# Altium integrated library EverythingUSB.IntLib: 1 symbol
Pins are listed as number, name and electrical type; pins without a type are passive.

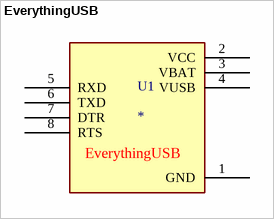
[diagram p0: symbol EverythingUSB]

## EverythingUSB
designator U1
footprint EverythingUSB
pins: 1 GND, 2 VCC, 3 VBAT, 4 VUSB, 5 RXD, 6 TXD, 7 DTR, 8 RTS